# Altium footprint library PcbLib1.PcbLib: 3 footprints
Each footprint in its own frame and in the unit in brackets; x right, y up, seen from the top. Pads: shape width x height; smd on the part's side, far side on the other; paste and mask are expansions set on the pad; w line width, h text height; cw(c..) or ccw(c..) is an arc to the next point about the centre after c.
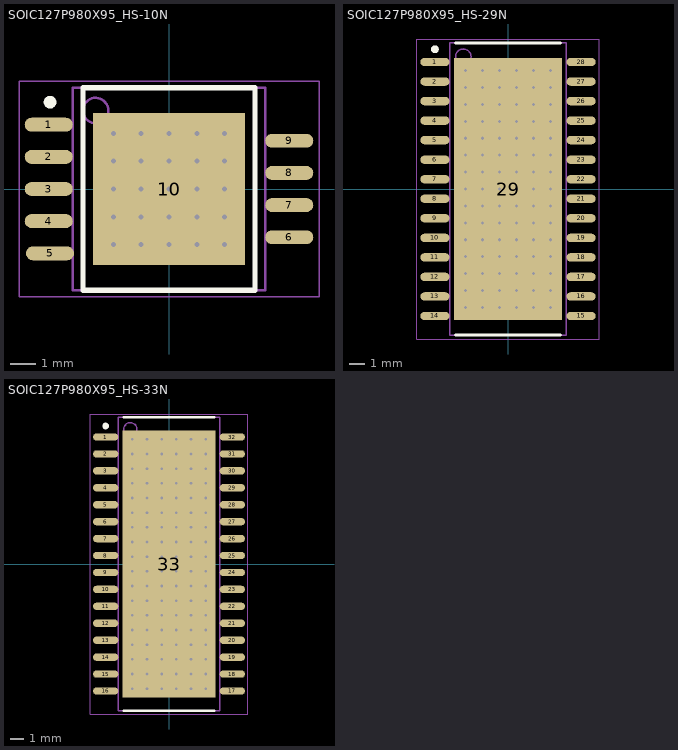
[diagram p0: the footprints below, top view; thin cyan lines are the x and y axes]

## SOIC127P980X95_HS-10N [mm] "SOIC, 9-Leads, Body 7.00x7.30mm, Pitch 1.27mm, Thermal Pad 6.00x6.00mm, IPC Medium Density"
height 0.95
pads (10):
  oval 1.9x0.55 smd: 1(-4.75,2.54) 2(-4.75,1.27) 3(-4.75,0) 4(-4.75,-1.27) 5(-4.699,-2.54) 6(4.75,-1.905) 7(4.75,-0.635) 8(4.75,0.635) 9(4.75,1.905)
  rect 6x6 smd: 10(0,0)
via 2.2,-2.2 diameter 0.5 hole 0.2
via 1.1,-2.2 diameter 0.5 hole 0.2
via 0,-2.2 diameter 0.5 hole 0.2
via 2.2,-1.1 diameter 0.5 hole 0.2
via 1.1,-1.1 diameter 0.5 hole 0.2
via 0,-1.1 diameter 0.5 hole 0.2
via 2.2,0 diameter 0.5 hole 0.2
via 1.1,0 diameter 0.5 hole 0.2
via 0,0 diameter 0.5 hole 0.2
via 2.2,1.1 diameter 0.5 hole 0.2
via 1.1,1.1 diameter 0.5 hole 0.2
via 0,1.1 diameter 0.5 hole 0.2
via 2.2,2.2 diameter 0.5 hole 0.2
via 1.1,2.2 diameter 0.5 hole 0.2
via 0,2.2 diameter 0.5 hole 0.2
via -2.2,-2.2 diameter 0.5 hole 0.2
via -1.1,-2.2 diameter 0.5 hole 0.2
via -1.1,-1.1 diameter 0.5 hole 0.2
via -2.2,-1.1 diameter 0.5 hole 0.2
via -1.1,0 diameter 0.5 hole 0.2
via -2.2,0 diameter 0.5 hole 0.2
via -1.1,1.1 diameter 0.5 hole 0.2
via -2.2,1.1 diameter 0.5 hole 0.2
via -1.1,2.2 diameter 0.5 hole 0.2
via -2.2,2.2 diameter 0.5 hole 0.2
Top Overlay:
  circle w0.25: c-4.699,3.429 r0.125
  lines w0.2: -3.4,-4 3.4,-4 3.4,4 -3.4,4 -3.4,-4
Mechanical 13:
  circle w0.1: c-2.9,3.1 r0.5
  lines w0.1: -3.8,-4 3.8,-4 3.8,4 -3.8,4 -3.8,-4
Mechanical 15:
  lines w0.05: -5.925,-4.25 5.925,-4.25 5.925,4.25 -5.925,4.25 -5.925,-4.25
  lines w0.1: -0.5,0 0.5,0 ; 0,-0.5 0,0.5
3D body "SOIC127P980X95_HS-10N.step": height 1.05, standoff 0, extent -4.908,-4 4.908,4

## SOIC127P980X95_HS-29N [mm] "SOIC, 28-Leads, Body 17.00x7.30mm, Pitch 1.27mm, Thermal Pad 17.00x7.00mm, IPC Medium Density"
height 0.95
pads (29):
  oval 1.9x0.55 smd: 1(-4.75,8.255) 2(-4.75,6.985) 3(-4.75,5.715) 4(-4.75,4.445) 5(-4.75,3.175) 6(-4.75,1.905) 7(-4.75,0.635) 8(-4.75,-0.635) 9(-4.75,-1.905) 10(-4.75,-3.175) 11(-4.75,-4.445) 12(-4.75,-5.715) 13(-4.75,-6.985) 14(-4.75,-8.255) 15(4.75,-8.255) 16(4.75,-6.985) 17(4.75,-5.715) 18(4.75,-4.445) 19(4.75,-3.175) 20(4.75,-1.905) 21(4.75,-0.635) 22(4.75,0.635) 23(4.75,1.905) 24(4.75,3.175) 25(4.75,4.445) 26(4.75,5.715) 27(4.75,6.985) 28(4.75,8.255)
  rect 7x17 smd: 29(0,0)
via -2.75,7.7 diameter 0.5 hole 0.2
via -1.65,7.7 diameter 0.5 hole 0.2
via -0.55,7.7 diameter 0.5 hole 0.2
via 0.55,7.7 diameter 0.5 hole 0.2
via 1.65,7.7 diameter 0.5 hole 0.2
via 2.75,7.7 diameter 0.5 hole 0.2
via -2.75,6.6 diameter 0.5 hole 0.2
via -1.65,6.6 diameter 0.5 hole 0.2
via -0.55,6.6 diameter 0.5 hole 0.2
via 0.55,6.6 diameter 0.5 hole 0.2
via 1.65,6.6 diameter 0.5 hole 0.2
via 2.75,6.6 diameter 0.5 hole 0.2
via -2.75,5.5 diameter 0.5 hole 0.2
via -1.65,5.5 diameter 0.5 hole 0.2
via -0.55,5.5 diameter 0.5 hole 0.2
via 0.55,5.5 diameter 0.5 hole 0.2
via 1.65,5.5 diameter 0.5 hole 0.2
via 2.75,5.5 diameter 0.5 hole 0.2
via -2.75,4.4 diameter 0.5 hole 0.2
via -1.65,4.4 diameter 0.5 hole 0.2
via -0.55,4.4 diameter 0.5 hole 0.2
via 0.55,4.4 diameter 0.5 hole 0.2
via 1.65,4.4 diameter 0.5 hole 0.2
via 2.75,4.4 diameter 0.5 hole 0.2
via -2.75,3.3 diameter 0.5 hole 0.2
via -1.65,3.3 diameter 0.5 hole 0.2
via -0.55,3.3 diameter 0.5 hole 0.2
via 0.55,3.3 diameter 0.5 hole 0.2
via 1.65,3.3 diameter 0.5 hole 0.2
via 2.75,3.3 diameter 0.5 hole 0.2
via -2.75,2.2 diameter 0.5 hole 0.2
via -1.65,2.2 diameter 0.5 hole 0.2
via -0.55,2.2 diameter 0.5 hole 0.2
via 0.55,2.2 diameter 0.5 hole 0.2
via 1.65,2.2 diameter 0.5 hole 0.2
via 2.75,2.2 diameter 0.5 hole 0.2
via -2.75,1.1 diameter 0.5 hole 0.2
via -1.65,1.1 diameter 0.5 hole 0.2
via -0.55,1.1 diameter 0.5 hole 0.2
via 0.55,1.1 diameter 0.5 hole 0.2
via 1.65,1.1 diameter 0.5 hole 0.2
via 2.75,1.1 diameter 0.5 hole 0.2
via -2.75,0 diameter 0.5 hole 0.2
via -1.65,0 diameter 0.5 hole 0.2
via -0.55,0 diameter 0.5 hole 0.2
via 0.55,0 diameter 0.5 hole 0.2
via 1.65,0 diameter 0.5 hole 0.2
via 2.75,0 diameter 0.5 hole 0.2
via -2.75,-1.1 diameter 0.5 hole 0.2
via -1.65,-1.1 diameter 0.5 hole 0.2
via -0.55,-1.1 diameter 0.5 hole 0.2
via 0.55,-1.1 diameter 0.5 hole 0.2
via 1.65,-1.1 diameter 0.5 hole 0.2
via 2.75,-1.1 diameter 0.5 hole 0.2
via -2.75,-2.2 diameter 0.5 hole 0.2
via -1.65,-2.2 diameter 0.5 hole 0.2
via -0.55,-2.2 diameter 0.5 hole 0.2
via 0.55,-2.2 diameter 0.5 hole 0.2
via 1.65,-2.2 diameter 0.5 hole 0.2
via 2.75,-2.2 diameter 0.5 hole 0.2
via -2.75,-3.3 diameter 0.5 hole 0.2
via -1.65,-3.3 diameter 0.5 hole 0.2
via -0.55,-3.3 diameter 0.5 hole 0.2
via 0.55,-3.3 diameter 0.5 hole 0.2
via 1.65,-3.3 diameter 0.5 hole 0.2
via 2.75,-3.3 diameter 0.5 hole 0.2
via -2.75,-4.4 diameter 0.5 hole 0.2
via -1.65,-4.4 diameter 0.5 hole 0.2
via -0.55,-4.4 diameter 0.5 hole 0.2
via 0.55,-4.4 diameter 0.5 hole 0.2
via 1.65,-4.4 diameter 0.5 hole 0.2
via 2.75,-4.4 diameter 0.5 hole 0.2
via -2.75,-5.5 diameter 0.5 hole 0.2
via -1.65,-5.5 diameter 0.5 hole 0.2
via -0.55,-5.5 diameter 0.5 hole 0.2
via 0.55,-5.5 diameter 0.5 hole 0.2
via 1.65,-5.5 diameter 0.5 hole 0.2
via 2.75,-5.5 diameter 0.5 hole 0.2
via -2.75,-6.6 diameter 0.5 hole 0.2
via -1.65,-6.6 diameter 0.5 hole 0.2
via -0.55,-6.6 diameter 0.5 hole 0.2
via 0.55,-6.6 diameter 0.5 hole 0.2
via 1.65,-6.6 diameter 0.5 hole 0.2
via 2.75,-6.6 diameter 0.5 hole 0.2
via -2.75,-7.7 diameter 0.5 hole 0.2
via -1.65,-7.7 diameter 0.5 hole 0.2
via -0.55,-7.7 diameter 0.5 hole 0.2
via 0.55,-7.7 diameter 0.5 hole 0.2
via 1.65,-7.7 diameter 0.5 hole 0.2
via 2.75,-7.7 diameter 0.5 hole 0.2
Top Overlay:
  circle w0.25: c-4.75,9.08 r0.125
  lines w0.2: -3.4,-9.5 3.4,-9.5 ; -3.4,9.5 3.4,9.5
Mechanical 13:
  circle w0.1: c-2.9,8.6 r0.5
  lines w0.1: -3.8,-9.5 -3.8,9.5 3.8,9.5 3.8,-9.5 -3.8,-9.5
Mechanical 15:
  lines w0.05: -5.925,-9.75 -5.925,9.75 5.925,9.75 5.925,-9.75 -5.925,-9.75
  lines w0.1: -0.5,0 0.5,0 ; 0,-0.5 0,0.5
3D body "SOIC127P980X95_HS-29N.step": height 1.05, standoff 0, extent -4.908,-9.5 4.908,9.5

## SOIC127P980X95_HS-33N [mm] "SOIC, 32-Leads, Body 19.50x7.30mm, Pitch 1.27mm, Thermal Pad 20.00x7.00mm, IPC Medium Density"
height 0.95
pads (33):
  oval 1.9x0.55 smd: 1(-4.75,9.525) 2(-4.75,8.255) 3(-4.75,6.985) 4(-4.75,5.715) 5(-4.75,4.445) 6(-4.75,3.175) 7(-4.75,1.905) 8(-4.75,0.635) 9(-4.75,-0.635) 10(-4.75,-1.905) 11(-4.75,-3.175) 12(-4.75,-4.445) 13(-4.75,-5.715) 14(-4.75,-6.985) 15(-4.75,-8.255) 16(-4.75,-9.525) 17(4.75,-9.525) 18(4.75,-8.255) 19(4.75,-6.985) 20(4.75,-5.715) 21(4.75,-4.445) 22(4.75,-3.175) 23(4.75,-1.905) 24(4.75,-0.635) 25(4.75,0.635) 26(4.75,1.905) 27(4.75,3.175) 28(4.75,4.445) 29(4.75,5.715) 30(4.75,6.985) 31(4.75,8.255) 32(4.75,9.525)
  rect 7x20 smd: 33(0,0)
via -2.75,9.35 diameter 0.5 hole 0.2
via -1.65,9.35 diameter 0.5 hole 0.2
via -0.55,9.35 diameter 0.5 hole 0.2
via 0.55,9.35 diameter 0.5 hole 0.2
via 1.65,9.35 diameter 0.5 hole 0.2
via 2.75,9.35 diameter 0.5 hole 0.2
via -2.75,8.25 diameter 0.5 hole 0.2
via -1.65,8.25 diameter 0.5 hole 0.2
via -0.55,8.25 diameter 0.5 hole 0.2
via 0.55,8.25 diameter 0.5 hole 0.2
via 1.65,8.25 diameter 0.5 hole 0.2
via 2.75,8.25 diameter 0.5 hole 0.2
via -2.75,7.15 diameter 0.5 hole 0.2
via -1.65,7.15 diameter 0.5 hole 0.2
via -0.55,7.15 diameter 0.5 hole 0.2
via 0.55,7.15 diameter 0.5 hole 0.2
via 1.65,7.15 diameter 0.5 hole 0.2
via 2.75,7.15 diameter 0.5 hole 0.2
via -2.75,6.05 diameter 0.5 hole 0.2
via -1.65,6.05 diameter 0.5 hole 0.2
via -0.55,6.05 diameter 0.5 hole 0.2
via 0.55,6.05 diameter 0.5 hole 0.2
via 1.65,6.05 diameter 0.5 hole 0.2
via 2.75,6.05 diameter 0.5 hole 0.2
via -2.75,4.95 diameter 0.5 hole 0.2
via -1.65,4.95 diameter 0.5 hole 0.2
via -0.55,4.95 diameter 0.5 hole 0.2
via 0.55,4.95 diameter 0.5 hole 0.2
via 1.65,4.95 diameter 0.5 hole 0.2
via 2.75,4.95 diameter 0.5 hole 0.2
via -2.75,3.85 diameter 0.5 hole 0.2
via -1.65,3.85 diameter 0.5 hole 0.2
via -0.55,3.85 diameter 0.5 hole 0.2
via 0.55,3.85 diameter 0.5 hole 0.2
via 1.65,3.85 diameter 0.5 hole 0.2
via 2.75,3.85 diameter 0.5 hole 0.2
via -2.75,2.75 diameter 0.5 hole 0.2
via -1.65,2.75 diameter 0.5 hole 0.2
via -0.55,2.75 diameter 0.5 hole 0.2
via 0.55,2.75 diameter 0.5 hole 0.2
via 1.65,2.75 diameter 0.5 hole 0.2
via 2.75,2.75 diameter 0.5 hole 0.2
via -2.75,1.65 diameter 0.5 hole 0.2
via -1.65,1.65 diameter 0.5 hole 0.2
via -0.55,1.65 diameter 0.5 hole 0.2
via 0.55,1.65 diameter 0.5 hole 0.2
via 1.65,1.65 diameter 0.5 hole 0.2
via 2.75,1.65 diameter 0.5 hole 0.2
via -2.75,0.55 diameter 0.5 hole 0.2
via -1.65,0.55 diameter 0.5 hole 0.2
via -0.55,0.55 diameter 0.5 hole 0.2
via 0.55,0.55 diameter 0.5 hole 0.2
via 1.65,0.55 diameter 0.5 hole 0.2
via 2.75,0.55 diameter 0.5 hole 0.2
via -2.75,-0.55 diameter 0.5 hole 0.2
via -1.65,-0.55 diameter 0.5 hole 0.2
via -0.55,-0.55 diameter 0.5 hole 0.2
via 0.55,-0.55 diameter 0.5 hole 0.2
via 1.65,-0.55 diameter 0.5 hole 0.2
via 2.75,-0.55 diameter 0.5 hole 0.2
via -2.75,-1.65 diameter 0.5 hole 0.2
via -1.65,-1.65 diameter 0.5 hole 0.2
via -0.55,-1.65 diameter 0.5 hole 0.2
via 0.55,-1.65 diameter 0.5 hole 0.2
via 1.65,-1.65 diameter 0.5 hole 0.2
via 2.75,-1.65 diameter 0.5 hole 0.2
via -2.75,-2.75 diameter 0.5 hole 0.2
via -1.65,-2.75 diameter 0.5 hole 0.2
via -0.55,-2.75 diameter 0.5 hole 0.2
via 0.55,-2.75 diameter 0.5 hole 0.2
via 1.65,-2.75 diameter 0.5 hole 0.2
via 2.75,-2.75 diameter 0.5 hole 0.2
via -2.75,-3.85 diameter 0.5 hole 0.2
via -1.65,-3.85 diameter 0.5 hole 0.2
via -0.55,-3.85 diameter 0.5 hole 0.2
via 0.55,-3.85 diameter 0.5 hole 0.2
via 1.65,-3.85 diameter 0.5 hole 0.2
via 2.75,-3.85 diameter 0.5 hole 0.2
via -2.75,-4.95 diameter 0.5 hole 0.2
via -1.65,-4.95 diameter 0.5 hole 0.2
via -0.55,-4.95 diameter 0.5 hole 0.2
via 0.55,-4.95 diameter 0.5 hole 0.2
via 1.65,-4.95 diameter 0.5 hole 0.2
via 2.75,-4.95 diameter 0.5 hole 0.2
via -2.75,-6.05 diameter 0.5 hole 0.2
via -1.65,-6.05 diameter 0.5 hole 0.2
via -0.55,-6.05 diameter 0.5 hole 0.2
via 0.55,-6.05 diameter 0.5 hole 0.2
via 1.65,-6.05 diameter 0.5 hole 0.2
via 2.75,-6.05 diameter 0.5 hole 0.2
via -2.75,-7.15 diameter 0.5 hole 0.2
via -1.65,-7.15 diameter 0.5 hole 0.2
via -0.55,-7.15 diameter 0.5 hole 0.2
via 0.55,-7.15 diameter 0.5 hole 0.2
via 1.65,-7.15 diameter 0.5 hole 0.2
via 2.75,-7.15 diameter 0.5 hole 0.2
via -2.75,-8.25 diameter 0.5 hole 0.2
via -1.65,-8.25 diameter 0.5 hole 0.2
via -0.55,-8.25 diameter 0.5 hole 0.2
via 0.55,-8.25 diameter 0.5 hole 0.2
via 1.65,-8.25 diameter 0.5 hole 0.2
via 2.75,-8.25 diameter 0.5 hole 0.2
via -2.75,-9.35 diameter 0.5 hole 0.2
via -1.65,-9.35 diameter 0.5 hole 0.2
via -0.55,-9.35 diameter 0.5 hole 0.2
via 0.55,-9.35 diameter 0.5 hole 0.2
via 1.65,-9.35 diameter 0.5 hole 0.2
via 2.75,-9.35 diameter 0.5 hole 0.2
Top Overlay:
  circle w0.25: c-4.75,10.35 r0.125
  lines w0.2: -3.4,-11 3.4,-11 ; -3.4,11 3.4,11
Mechanical 13:
  circle w0.1: c-2.9,10.1 r0.5
  lines w0.1: -3.8,-11 -3.8,11 3.8,11 3.8,-11 -3.8,-11
Mechanical 15:
  lines w0.05: -5.925,-11.25 -5.925,11.25 5.925,11.25 5.925,-11.25 -5.925,-11.25
  lines w0.1: -0.5,0 0.5,0 ; 0,-0.5 0,0.5
3D body "SOIC127P980X95_HS-33N.step": height 1.05, standoff 0, extent -4.908,-11 4.908,11